# EAGLE library part MAX6954 (library bodger)
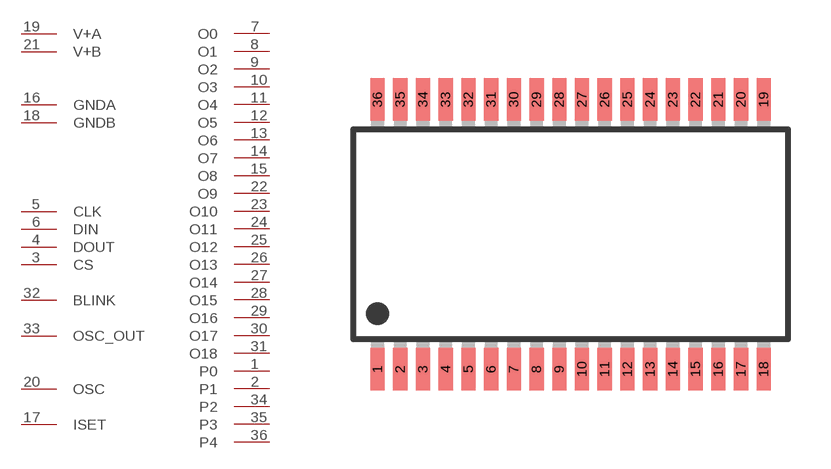
[diagram p21: symbol with the pads of SSOP36; footprint SSOP36]

Designator prefix -

## MAX6954  [SSOP36]
1  P0
2  P1
3  CS
4  DOUT
5  CLK
6  DIN
7  O0
8  O1
9  O2
10  O3
11  O4
12  O5
13  O6
14  O7
15  O8
16  GNDA
17  ISET
18  GNDB
19  V+A
20  OSC
21  V+B
22  O9
23  O10
24  O11
25  O12
26  O13
27  O14
28  O15
29  O16
30  O17
31  O18
32  BLINK
33  OSC_OUT
34  P2
35  P3
36  P4

## Footprint SSOP36 (pad centres in mm)
36L SSOP, 0.80 MM PITCH Source: http://datasheets.maxim-ic.com/en/ds/MAX7042.pdf
smd 0.5 x 1.5: 1 -6.8,-4.75; 2 -6,-4.75; 3 -5.2,-4.75; 4 -4.4,-4.75; 5 -3.6,-4.75; 6 -2.8,-4.75; 7 -2,-4.75; 8 -1.2,-4.75; 9 -0.4,-4.75; 10 0.4,-4.75; 11 1.2,-4.75; 12 2,-4.75; 13 2.8,-4.75; 14 3.6,-4.75; 15 4.4,-4.75; 16 5.2,-4.75; 17 6,-4.75; 18 6.8,-4.75; 19 6.8,4.75; 20 6,4.75; 21 5.2,4.75; 22 4.4,4.75; 23 3.6,4.75; 24 2.8,4.75; 25 2,4.75; 26 1.2,4.75; 27 0.4,4.75; 28 -0.4,4.75; 29 -1.2,4.75; 30 -2,4.75; 31 -2.8,4.75; 32 -3.6,4.75; 33 -4.4,4.75; 34 -5.2,4.75; 35 -6,4.75; 36 -6.8,4.75